# Altium schematic symbol library AltiumDesignerLibraries.SCHLIB: 396 symbols (part 3 of 3)
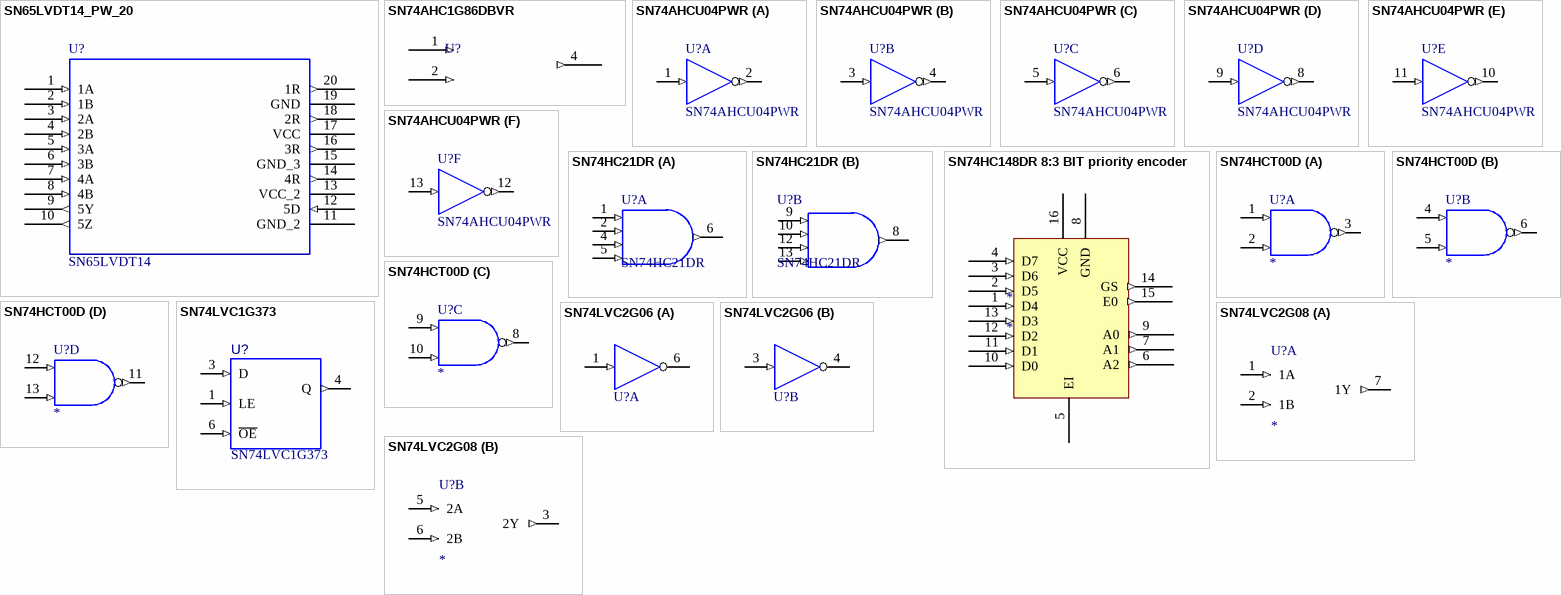
[diagram p19: symbols SN65LVDT14_PW_20 to SN74LVC2G08]

## SN74AHCU04PWR
designator U?
IC Hex inverter 14-TSSOP; Manufacturer: Texas Instruments
footprint TSSOP-14 (TSOP, 14-Leads, Body 5x4.4mm, Pitch 0.65mm, IPC Low Density)
pins on every part: 7 GND (power) hidden to AGND, 14 VDD (power) hidden to +5V
part A pins: 1 IN (in), 2 ~{OUT} (out)
part B pins: 3 IN (in), 4 ~{OUT} (out)
part C pins: 5 IN (in), 6 ~{OUT} (out)
part D pins: 8 ~{OUT} (out), 9 IN (in)
part E pins: 10 ~{OUT} (out), 11 IN (in)
part F pins: 12 ~{OUT} (out), 13 IN (in)

## SN74HC21DR
designator U?
SN74HC21DR DUAL 4IN POS-AND GATE 14-SOIC; Manufacturer: Texas Instruments
footprint SOIC-14
pins on every part: 7 GND (power) hidden, 14 VCC (power) hidden
part A pins: 1 A (in), 2 A (in), 4 A (in), 5 A (in), 6 A (out)
part B pins: 8 B (out), 9 B (in), 10 B (in), 11 NC hidden, 12 B (in), 13 B (in)

## SN74HC148DR 8:3 BIT priority encoder
designator *
SN74HC148DR 8:3 BIT priority encoder; Manufacturer: Texas Instruments
pins: 1 D4 (in), 2 D5 (in), 3 D6 (in), 4 D7 (in), 5 EI, 6 A2 (out), 7 A1 (out), 8 GND (power), 9 A0 (out), 10 D0 (in), 11 D1 (in), 12 D2 (in), 13 D3 (in), 14 GS (out), 15 E0 (out), 16 VCC (power)

## SN74HCT00D
designator U?
SN74HCT00D; Manufacturer: Texas Instruments
footprint SO-G14/G3.3
pins on every part: 7 GND (power) hidden, 14 VCC (power) hidden
part A pins: 1 A (in), 2 B (in), 3 Y (out)
part B pins: 4 A (in), 5 B (in), 6 Y (out)
part C pins: 8 Y (out), 9 A (in), 10 B (in)
part D pins: 11 Y (out), 12 A (in), 13 B (in)

## SN74LVC1G373
designator U?
Single D-Type Latch Tri-state output; Manufacturer: Texas Instruments
pins: 1 LE (in), 2 GND (io) hidden, 3 D (in), 4 Q (out), 5 VDD (power) hidden, 6 ~{OE} (in)

## SN74LVC2G06
designator U?, comment Inverter  (value not drawn)
Dual inverter buffer driver with open drain outputs; Manufacturer: Texas Instruments
footprint SO-G6/E5
part A pins: 1 A (in), 2 GND hidden to DGND, 5 Vcc hidden to +3.3V, 6 Y (oc)
part B pins: 3 A (in), 4 Y (oc)

## SN74LVC2G08
designator U?
Dual 2-input AND Gate; Manufacturer: Texas Instruments
part A pins: 1 1A (in), 2 1B (in), 4 GND (power) hidden, 7 1Y (out), 8 Vcc (power) hidden
part B pins: 3 2Y (out), 5 2A (in), 6 2B (in)

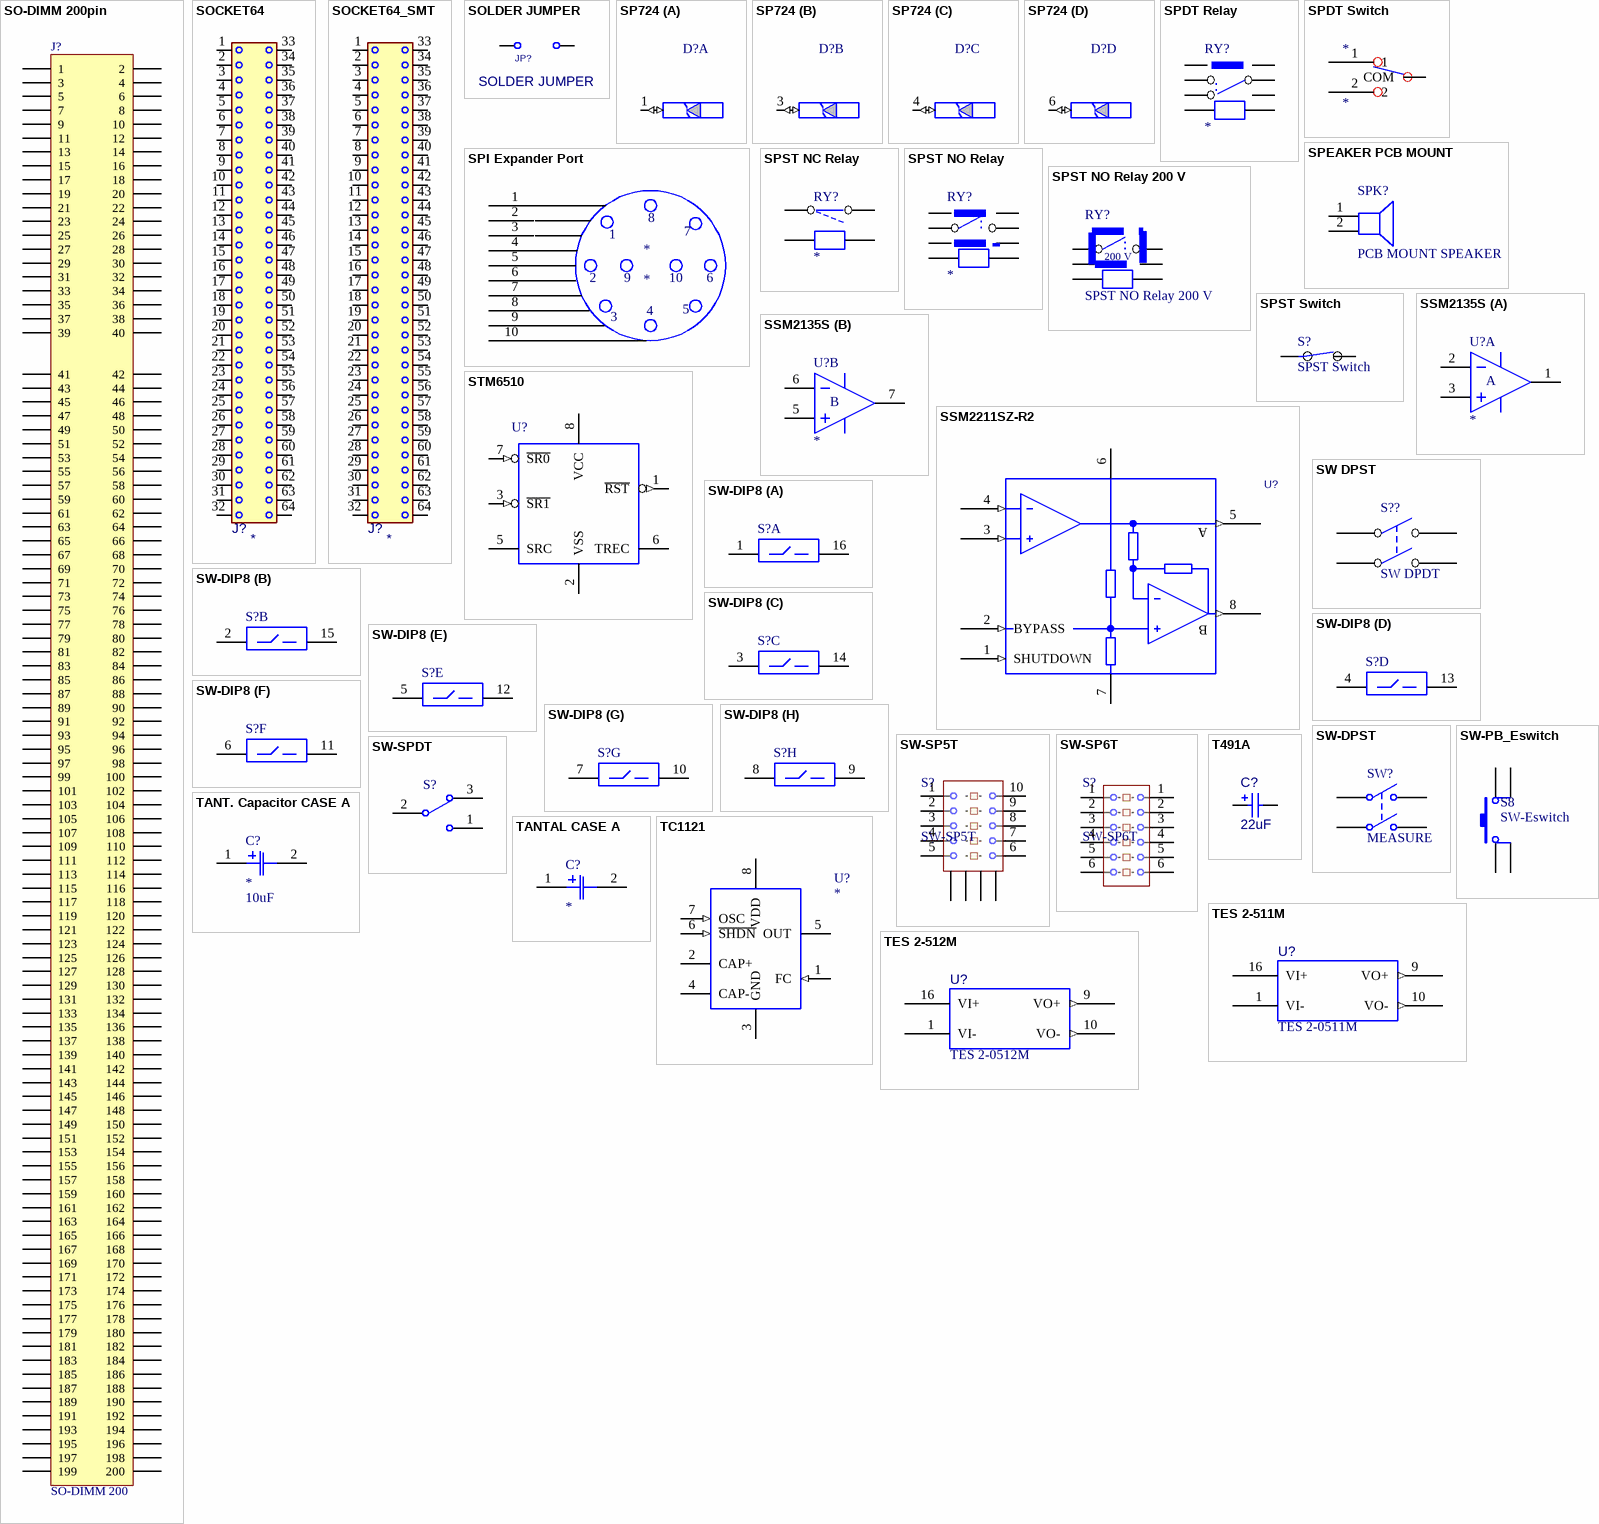
[diagram p14: symbols SO-DIMM 200pin to TES 2-512M]

## SO-DIMM 200pin
designator J?, comment SO-DIMM 200
SO-DIMM 200--Pin Tyco Electronics; Revision: 17-Jul-2002: Re-released for DXP Platform.; Manufacturer: Tyco
signal-integrity model Connector
footprint SO-DIMM (200 pin S0-DIMM)
pins: 1, 2, 3, 4, 5, 6, 7, 8, 9, 10, 11, 12, 13, 14, 15, 16, 17, 18, 19, 20, 21, 22, 23, 24, 25, 26, 27, 28, 29, 30, 31, 32, 33, 34, 35, 36, 37, 38, 39, 40, 41, 42, 43, 44, 45, 46, 47, 48, 49, 50, 51, 52, 53, 54, 55, 56, 57, 58, 59, 60, 61, 62, 63, 64, 65, 66, 67, 68, 69, 70, 71, 72, 73, 74, 75, 76, 77, 78, 79, 80, 81, 82, 83, 84, 85, 86, 87, 88, 89, 90, 91, 92, 93, 94, 95, 96, 97, 98, 99, 100, 101, 102, 103, 104, 105, 106, 107, 108, 109, 110, 111, 112, 113, 114, 115, 116, 117, 118, 119, 120, 121, 122, 123, 124, 125, 126, 127, 128, 129, 130, 131, 132, 133, 134, 135, 136, 137, 138, 139, 140, 141, 142, 143, 144, 145, 146, 147, 148, 149, 150, 151, 152, 153, 154, 155, 156, 157, 158, 159, 160, 161, 162, 163, 164, 165, 166, 167, 168, 169, 170, 171, 172, 173, 174, 175, 176, 177, 178, 179, 180, 181, 182, 183, 184, 185, 186, 187, 188, 189, 190, 191, 192, 193, 194, 195, 196, 197, 198, 199, 200

## SOCKET64
designator J?  (value not drawn)
DIN Socket, 64 Contacts, Dual Row, 3M 41612 Series 7164; Manufacturer: 3M; Value: *
footprint SOCKET64
pins: 1, 2, 3, 4, 5, 6, 7, 8, 9, 10, 11, 12, 13, 14, 15, 16, 17, 18, 19, 20, 21, 22, 23, 24, 25, 26, 27, 28, 29, 30, 31, 32, 33, 34, 35, 36, 37, 38, 39, 40, 41, 42, 43, 44, 45, 46, 47, 48, 49, 50, 51, 52, 53, 54, 55, 56, 57, 58, 59, 60, 61, 62, 63, 64

## SOCKET64_SMT
designator J?  (value not drawn)
DIN Socket, Surface Mount,  64 Contacts, Dual Row, Gull Wing; Manufacturer: SSW-132-22-F-D-VS; Value: *
footprint SSW Female Socket
pins: 1, 2, 3, 4, 5, 6, 7, 8, 9, 10, 11, 12, 13, 14, 15, 16, 17, 18, 19, 20, 21, 22, 23, 24, 25, 26, 27, 28, 29, 30, 31, 32, 33, 34, 35, 36, 37, 38, 39, 40, 41, 42, 43, 44, 45, 46, 47, 48, 49, 50, 51, 52, 53, 54, 55, 56, 57, 58, 59, 60, 61, 62, 63, 64

## SOLDER JUMPER
designator JP?
Value: SOBP; Description: Jumper
footprint SOLDER JUMPER
pins: 1, 2

## SP724
designator D?, comment SOT23-6  (value not drawn)
SCR Diode Array for ESD and Transient Overvoltage Protection; Manufacturer: Littlefuse
footprint SOT23-6
part A pins: 1 IN1 (io), 2 V- (power) hidden to GND "GND", 5 V+ (power) hidden to 3.3V "Vcc"
part B pins: 3 IN2 (io)
part C pins: 4 IN3 (io)
part D pins: 6 IN4 (io)

## SPDT Relay
designator RY?
Coto 9852-05-00 1 Form C
footprint SO-G8/X9.5 (SOIC 8 pin 0.5mm pitch extra wide body 12mm)
pins: 1 C1, 2 C2, 3 SHIELD (power), 4 SHIELD (power), 5 S1, 6 S2, 7 SHIELD (power), 8 SHIELD (power)

## SPDT Switch
designator *
General Purpose SPDT switch
pins: 0 COM, 1, 2

## SPEAKER PCB MOUNT
designator SPK?, comment PCB MOUNT SPEAKER
AST-1732MR-R Speaker 32ohm 200mW PCB mount thru hole; Revision: July-2002: Re-released for DXP Platform.
footprint AST-1732MR-R (SPEAKER pcb mount)
pins: 1, 2

## SPI Expander Port
designator *
10 position expander port
pins: 1, 2, 3, 4, 5, 6, 7, 8, 9, 10

## SPST NC Relay
designator RY?
General purpose NC relay
footprint 8000_Series_Relay
pins: 1 S2, 2 C2, 6 C1, 7 S1

## SPST NO Relay
designator RY?
Coto 9802-05-00
footprint SO-G8/X9.5
pins: 1 C1, 2 C2, 3 SHIELD (power), 4 SHIELD (power), 5 S1, 6 S2, 7 SHIELD (power), 8 SHIELD (power)

## SPST NO Relay 200 V
designator RY?
Relay Coto 9402-05-20
footprint Coto 9402
pins: 1 C1, 2 C2, 3 SHIELD (power), 4 SHIELD (power), 5 S1, 6 S2
text: 200 V

## SPST Switch
designator S?
General Purpose SPST switch
pins: 0 COM, 1

## SSM2135S
designator U?
Dual Audio Op-Amp
footprint SO-G8
part A pins: 1 OUT, 2 IN-, 3 IN+, 4 V- (power) hidden to V-, 8 V+ (power) hidden to V+
part B pins: 5 IN+, 6 IN-, 7 OUT
part A text: A
part B text: B

## SSM2211SZ-R2
designator U?, comment SSM2211  (value not drawn)
SSM221 Low Distortion 1.5W Audio PWR Amplifier
footprint SO-G8 (SOIC 8 pin 0.5mm pitch)
pins: 1 SHUTDOWN (in), 2 BYPASS (in), 3 IN+ (in), 4 IN- (in), 5 VOUTA (out), 6 V+ (power), 7 V- (power), 8 VOUTB (out)
text: A; B

## STM6510
designator U?  (value not drawn)
STM6510 Smart Reset; Manufacturer: ST Microelectronics
pins: 1 ~{RST} (out) "GND", 2 VSS (power) "GND", 3 ~{SR1} (in) "GND", 4 NC hidden "GND", 5 SRC "GND", 6 TREC "GND", 7 ~{SR0} (in) "GND", 8 VCC (power) "GND"

## SW DPST
designator S??, comment SW DPDT  (graphical)
General Purpose DPDT switch
pins: COMMON1, COMMON2, NO1, NO2

## SW-DIP8
designator S?  (value not drawn)
8 pos. Half-Pitch DIP switch 16-SOIC
simulation model dpsw8 (Spice Subcircuit)
footprint SO-16/7.8
part A pins: 1, 16
part B pins: 2, 15
part C pins: 3, 14
part D pins: 4, 13
part E pins: 5, 12
part F pins: 6, 11
part G pins: 7, 10
part H pins: 8, 9

## SW-DPST
designator SW?  value MEASURE  (hidden comment: SW-DPST)
Double-Pole, Single-Throw Switch; Revision: July-2002: Re-released for DXP Platform.
pins: 1 COMMON1, 2 NO1, 3 COMMON2, 4 NO2

## SW-PB_Eswitch
designator S8, comment SW-Eswitch
General Purpose PB Switch
footprint Eswitch
pins: 1, 2, 3, 4

## SW-SP5T
designator S?
SP6T Slide Switch
footprint SlideSW
pins: 1, 2, 3, 4, 5, 6, 7, 8, 9, 10, 11, 12, 13, 14

## SW-SP6T
designator S?
SP6T Slide Switch
footprint Mini-DipSW (Single surface mount dip switch)
pins: 1, 1, 2, 2, 3, 3, 4, 4, 5, 5, 6, 6

## SW-SPDT
designator S?
SPDT Subminiature Toggle Dip Switch SMT
footprint Mini-DipSW (Single surface mount dip switch)
pins: 1, 2, 3

## T491A
designator C?  value 22uF  (hidden comment: T491A)
Solid Tantalum Chip Capacitor, Standard T491 Series - Industrial Grade; Revision: 11-Dec-2002: PCB Footprint 'SO-C2/G.6' replaced
footprint A (Capacitor, SM Tantalum; Body 3.2 x 1.6 mm (LxW typ))
simulation model CAP (Capacitor)
signal-integrity model T491A
pins: 1, 2

## TANT. Capacitor CASE A
designator C?  value 10uF
TANT. Capacitor CASE A
footprint 3216 (A)
pins: 1 +, 2 -

## TANTAL CASE A
designator C?
TANTAL CASE A
footprint 3216 (A)
pins: 1 +, 2 -

## TC1121
designator U?
100mA Charge Pump Voltage Converter with Shutdown; Manufacturer: Microchip
footprint SO-G8
pins: 1 FC (in), 2 CAP+, 3 GND (power), 4 CAP-, 5 OUT (power), 6 ~{SHDN} (in), 7 OSC (in), 8 VDD (power)

## TES 2-511M
designator U?, comment TES 2-0511M
DC-DC conv. single output Iso 4kVAC 5V; Manufacturer: Traco
footprint TES2M
pins: 1 VI- (power), 7 NC hidden, 8 NC hidden, 9 VO+ (out), 10 VO- (out), 16 VI+ (power)

## TES 2-512M
designator U?, comment TES 2-0512M
DC-DC conv. single output Iso 4kVAC 5V to 12V; Manufacturer: Traco
footprint TES2M
pins: 1 VI- (power), 7 NC hidden, 8 NC hidden, 9 VO+ (out), 10 VO- (out), 16 VI+ (power)

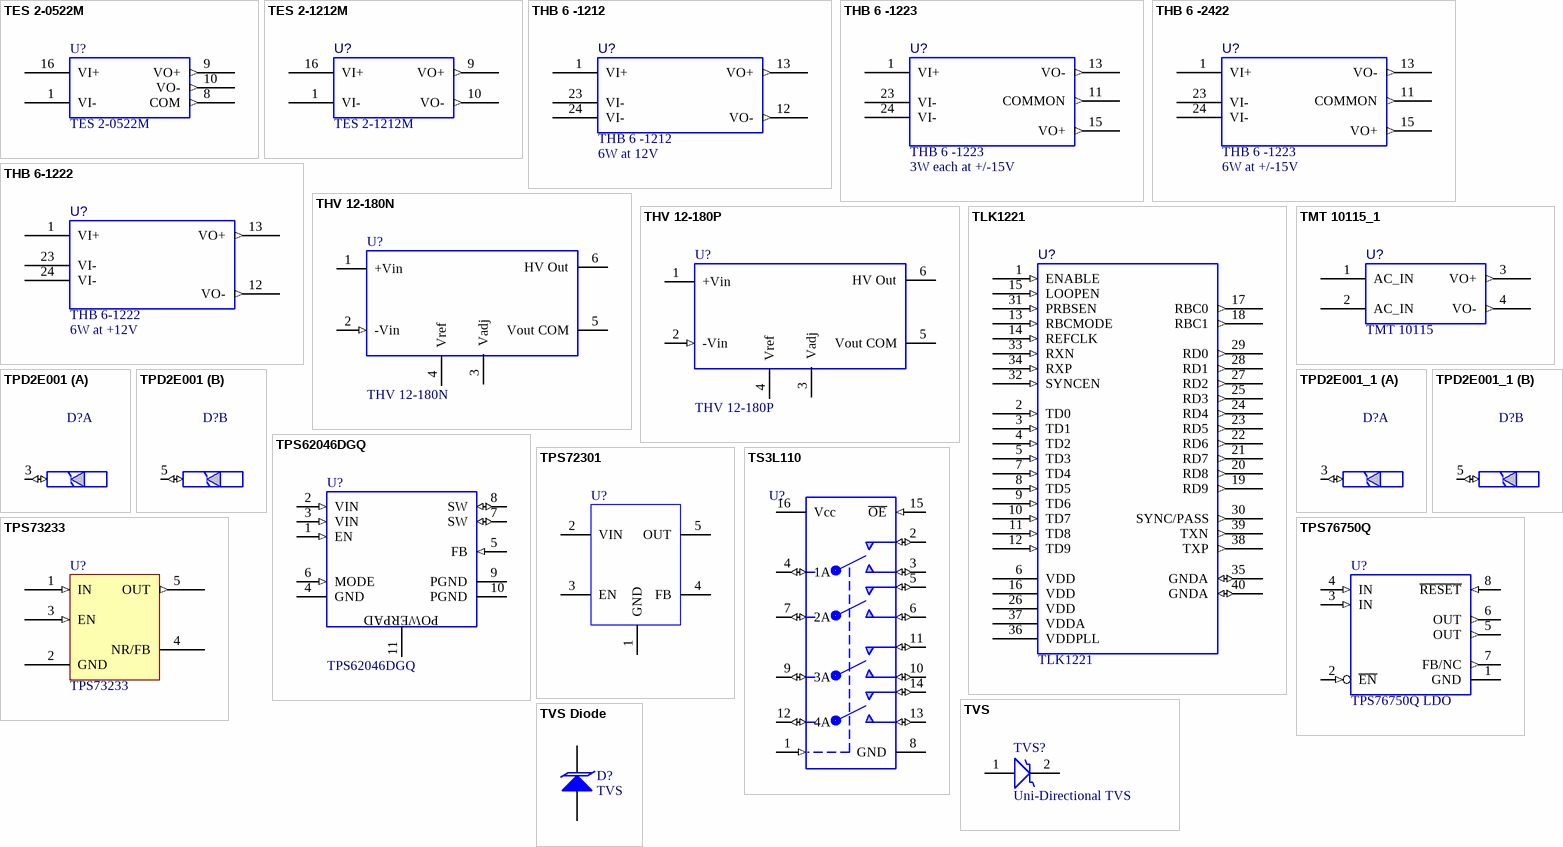
[diagram p15: symbols TES 2-0522M to TVS Diode]

## TES 2-0522M
designator U?
DC-DC conv. Isolated 4kVAC +/-12V; Manufacturer: Traco
footprint SIL-5(7)/A7.6
footprint TES2M
pins: 1 VI- (power), 7 NC hidden, 8 COM (out), 9 VO+ (out), 10 VO- (out), 16 VI+ (power)

## TES 2-1212M
designator U?
DC-DC conv. single output Iso 4kVAC 12V to 12V; Manufacturer: Traco; value: 2W @ 12V
footprint TES2M
pins: 1 VI- (power), 7 NC hidden, 8 NC hidden, 9 VO+ (out), 10 VO- (out), 16 VI+ (power)

## THB 6 -1212
designator U?  value 6W at 12V
DC-DC conv. single output Iso 4kVAC 12V to 12V; Manufacturer: Traco
footprint THB6 (THB 6 series DC-to-DC converter footprint)
pins: 1 VI+ (power), 7 NC hidden, 8 NC hidden, 11 NC (out) hidden, 12 VO- (out), 13 VO+ (out), 15 NC (out) hidden, 23 VI- (power), 24 VI- (power)

## THB 6 -1223
designator U?  value 3W each at +/-15V
DC-DC conv. dual output 12V to +/-15V; Manufacturer: Traco
footprint THB6 (THB 6 series DC-to-DC converter footprint)
pins: 1 VI+ (power), 11 COMMON (out), 12 NC hidden, 13 VO- (out), 15 VO+ (out), 23 VI- (power), 24 VI- (power)

## THB 6 -2422
designator U?, comment THB 6 -1223  value 6W at +/-15V
DC-DC conv. dual output Iso 4kVAC 19V to +/-15V; Manufacturer: Traco
footprint THB6 (THB 6 series DC-to-DC converter footprint)
pins: 1 VI+ (power), 11 COMMON (out), 12 NC hidden, 13 VO- (out), 15 VO+ (out), 23 VI- (power), 24 VI- (power)

## THB 6-1222
designator U?  value 6W at +12V
DC-DC conv. isolated 12V Out at 6W; Manufacturer: Traco
footprint THB6
pins: 1 VI+ (power), 12 NC hidden, 12 VO- (out), 13 VO+ (out), 23 VI- (power), 24 VI- (power)

## THV 12-180N
designator U?
-180V adjustable high voltage power supply; Manufacturer: Traco
pins: 1 +Vin (power), 2 -Vin (in), 3 Vadj (power), 4 Vref (power), 5 Vout COM (power), 6 HV Out (power)

## THV 12-180P
designator U?
+180V adjustable HV power supply; Manufacturer: Traco
pins: 1 +Vin (power), 2 -Vin (in), 3 Vadj (power), 4 Vref (power), 5 Vout COM (power), 6 HV Out (power)

## TLK1221
designator U?
TBI SERDES chip; Manufacturer: Texas Instruments
pins: 1 ENABLE (in), 2 TD0 (in), 3 TD1 (in), 4 TD2 (in), 5 TD3 (in), 6 VDD (power), 7 TD4 (in), 8 TD5 (in), 9 TD6 (in), 10 TD7 (in), 11 TD8 (in), 12 TD9 (in), 13 RBCMODE (in), 14 REFCLK (in), 15 LOOPEN (in), 16 VDD (power), 17 RBC0 (out), 18 RBC1 (out), 19 RD9 (out), 20 RD8 (out), 21 RD7 (out), 22 RD6 (out), 23 RD5 (out), 24 RD4 (out), 25 RD3 (out), 26 VDD (power), 27 RD2 (out), 28 RD1 (out), 29 RD0 (out), 30 SYNC/PASS (out), 31 PRBSEN (in), 32 SYNCEN (in), 33 RXN (in), 34 RXP (in), 35 GNDA (io), 36 VDDPLL (power), 37 VDDA (power), 38 TXP (out), 39 TXN (out), 40 GNDA (io)

## TMT 10115_1
designator U?, comment TMT 10115
AC/DC power module TMT series  10W; Manufacturer: Traco
pins: 1 AC_IN (power), 2 AC_IN (power), 3 VO+ (out), 4 VO- (out)

## TPD2E001
designator D?  (value not drawn)
TPD2E001 SCR Diode Array for ESD and Transient Overvoltage Protection; Manufacturer: Texas Instruments
footprint SOT23-5AN (SOT23, 5-Leads, Body 2.9x1.6mm, Pitch 0.95mm, Lead Span 2.8mm, IPC Medium Density)
part A pins: 1 VCC (power) hidden to 3.3V "Vcc", 3 IO1 (io), 4 GND (power) hidden to GND
part B pins: 2 NC hidden "GND", 5 IO2 (io)

## TPD2E001_1
designator D?, comment TPD2E001  (value not drawn)
TPD2E001 SCR Diode Array for ESD and Transient Overvoltage Protection
footprint SOT23-5AN (SOT23, 5-Leads, Body 2.9x1.6mm, Pitch 0.95mm, Lead Span 2.8mm, IPC Medium Density)
part A pins: 1 VCC (power) hidden to UNISO_3.3V "Vcc", 3 IO1 (io), 4 GND (power) hidden to CPM_GND
part B pins: 2 NC hidden "GND", 5 IO2 (io)

## TPS62046DGQ
designator U?
5V to 3.3V Step Down DC-DC converter 1.25MHz 1.2A; Manufacturer: Texas Instruments
footprint MSOP-10 Exposed Pad (MSOP-10 Exposed Pad must solder to ground)
pins: 1 EN (in), 2 VIN (in), 3 VIN (in), 4 GND (power), 5 FB (in), 6 MODE (in), 7 SW (io), 8 SW (io), 9 PGND (power), 10 PGND (power), 11 PGND (power)
text: POWERPAD

## TPS72301
designator U?
Low Noise Negative Votage Regulator; Manufacturer: Texas Instruments
footprint SO-G5/P.95
pins: 1 GND (power), 2 VIN (power), 3 EN, 4 FB, 5 OUT (power)

## TPS73233
designator U?
Cap-Free, NMOS, 250mA Low Dropout Regulator with Reverse Current Protection; Manufacturer: Texas Instruments
footprint SOT23-5AN (SOT23, 5-Leads, Body 2.9x1.6mm, Pitch 0.95mm, Lead Span 2.8mm, IPC Medium Density)
pins: 1 IN (in), 2 GND (power), 3 EN (in), 4 NR/FB, 5 OUT (out)

## TPS76750Q
designator U?, comment TPS76750Q LDO
TPS76750Q Pos. 5V LDO 1000mA; Manufacturer: Texas Instruments
footprint SO-G8 (SOIC 8 pin 0.5mm pitch)
pins: 1 GND, 2 ~{EN} (in), 3 IN (in), 4 IN (in), 5 OUT (out), 6 OUT (out), 7 FB/NC (out), 8 ~{RESET} (in)

## TS3L110
designator U?, comment Ethernet Multiplexer  (value not drawn)
TS3L110 IC FET MUX/DEMUX SGL 16TSSOP; Manufacturer: Texas Instruments
footprint TSSO5X6-G16
pins: 1 SEL (in), 2 1B1 (io), 3 1B2 (io), 4 1A (io), 5 2B1 (io), 6 2B2 (io), 7 2A (io), 8 GND (power), 9 3A (io), 10 3B2 (io), 11 3B1 (io), 12 4A (io), 13 4B2 (io), 14 4B1 (io), 15 ~{OE} (in), 16 Vcc (power)

## TVS
designator TVS?, comment Uni-Directional TVS
Transient Voltage Suppressor
footprint TVS0603
pins: 1 A, 2 K

## TVS Diode
designator D?, comment TVS
P6KE20A 600Watt Uniderectional TVS thru-hole; Revision: 17-Jul-2002: Re-released for DXP Platform.
footprint DO-15 (Diode footprint 250mil body)
pins: 1 K, 2 A

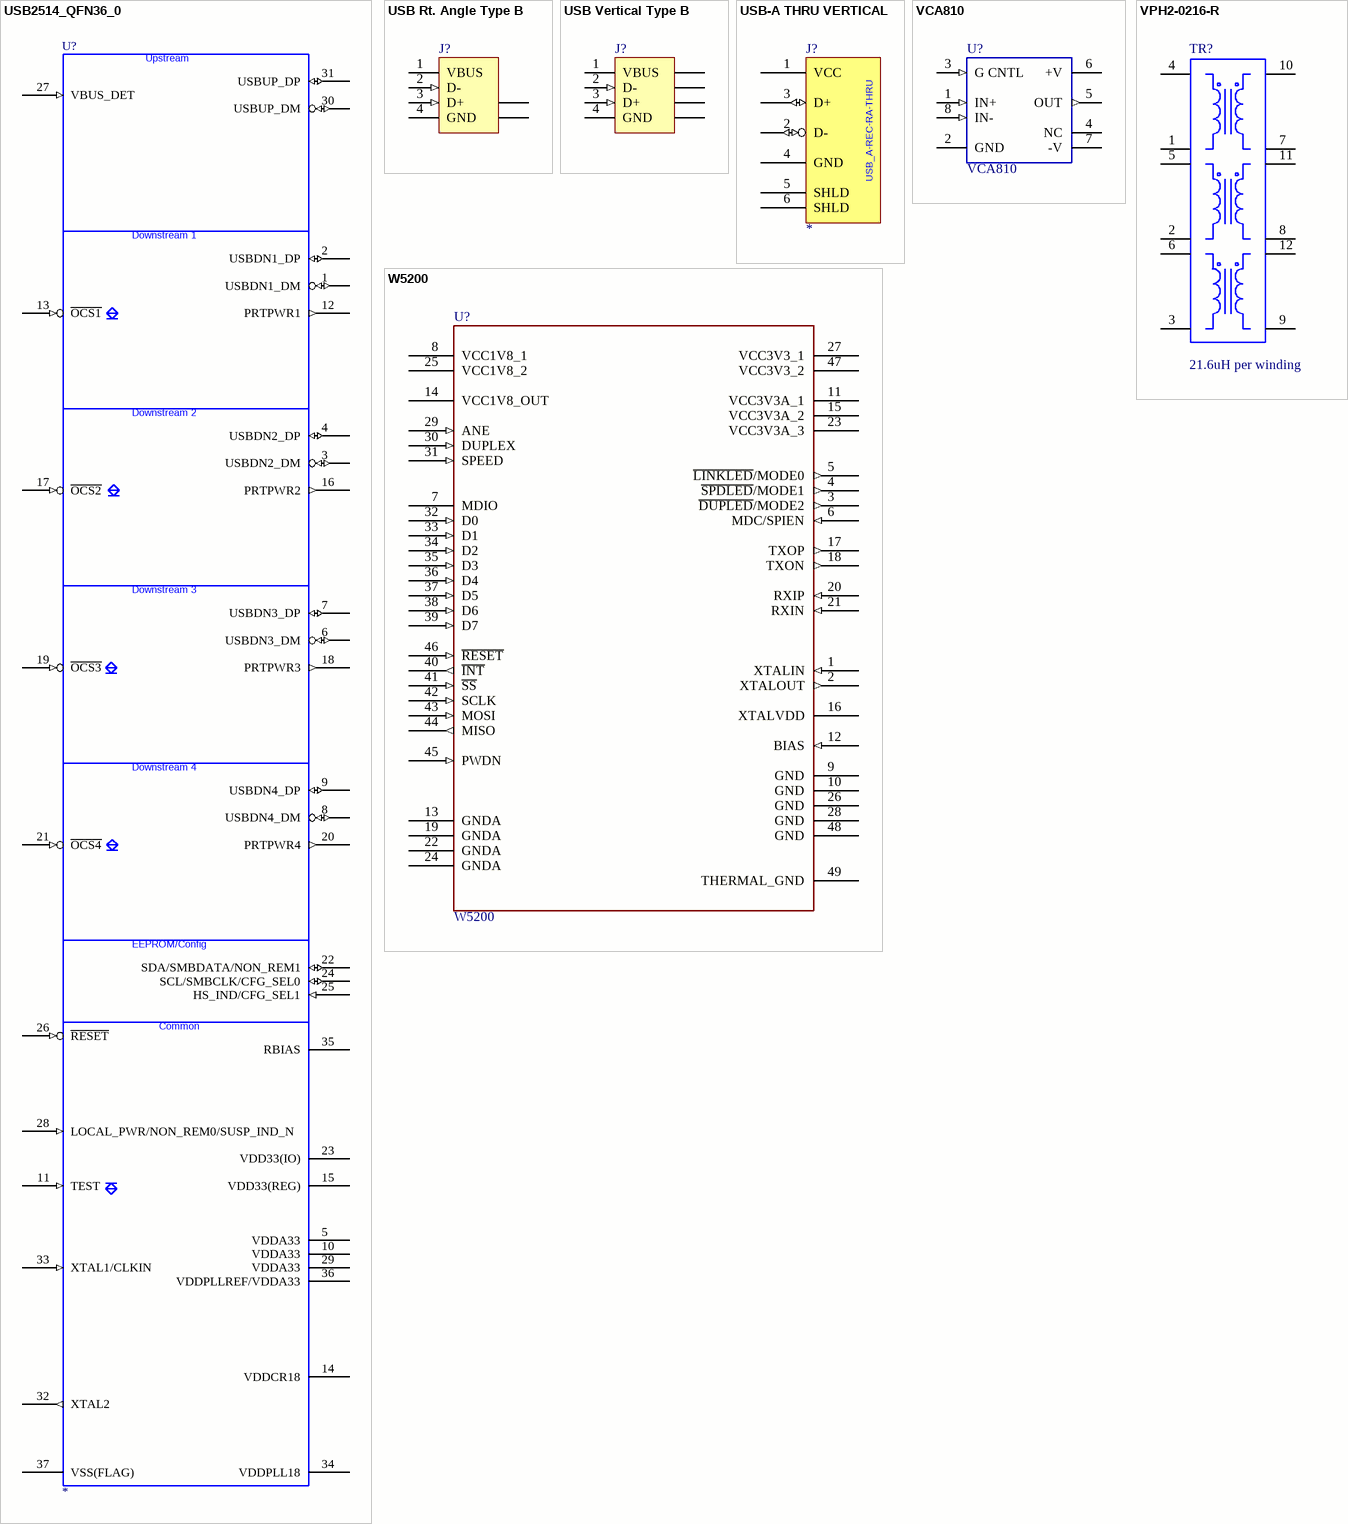
[diagram p16: symbols USB2514_QFN36_0 to W5200]

## USB2514_QFN36_0
designator U?
USB Hub chip 4-port; Manufacturer: Microchip
footprint QFN6X6-36
pins: 1 USBDN1_DM (io), 2 USBDN1_DP (io), 3 USBDN2_DM (io), 4 USBDN2_DP (io), 5 VDDA33 (power), 6 USBDN3_DM (io), 7 USBDN3_DP (io), 8 USBDN4_DM (io), 9 USBDN4_DP (io), 10 VDDA33 (power), 11 TEST (in), 12 PRTPWR1 (out), 13 ~{OCS1} (in), 14 VDDCR18 (power), 15 VDD33(REG) (power), 16 PRTPWR2 (out), 17 ~{OCS2} (in), 18 PRTPWR3 (out), 19 ~{OCS3} (in), 20 PRTPWR4 (out), 21 ~{OCS4} (in), 22 SDA/SMBDATA/NON_REM1 (io), 23 VDD33(IO) (power), 24 SCL/SMBCLK/CFG_SEL0 (io), 25 HS_IND/CFG_SEL1 (in), 26 ~{RESET} (in), 27 VBUS_DET (in), 28 LOCAL_PWR/NON_REM0/SUSP_IND_N (in), 29 VDDA33 (power), 30 USBUP_DM (io), 31 USBUP_DP (io), 32 XTAL2 (out), 33 XTAL1/CLKIN (in), 34 VDDPLL18 (power), 35 RBIAS, 36 VDDPLLREF/VDDA33 (power), 37 VSS(FLAG) (power)
text: Upstream; Downstream 1; Downstream 2; Downstream 3; Downstream 4; EEPROM/Config; Common

## USB Rt. Angle Type B
designator J?
USB 2.0, Right Angle, Thru-Hole, B Type, Receptacle, 4 Position, Black
footprint USB_TypeB_RT_Angle
signal-integrity model USB1.1
pins: 1 VBUS (power) "Power", 2 D- (in) "-DATA", 3 D+ (in) "+DATA", 4 GND (power) "Ground", 5 SHLD "Shield", 6 SHLD "Shield"

## USB Vertical Type B
designator J?
USB 2.0, Vertical, Thru-Hole, B Type, Receptacle, 8 Position,
footprint USB Type B vertical (USB Type B vertical thru hole)
signal-integrity model USB1.1
pins: 1 VBUS (power) "Power", 2 D- (in) "-DATA", 3 D+ (in) "+DATA", 4 GND (power) "Ground", 5 SHLD "Shield", 6 SHLD "Shield", 7 SHLD "Shield", 8 SHLD "Shield"

## USB-A THRU VERTICAL
designator J?
Vertical Type A usb conn
footprint USB-A Vertical
pins: 1 VCC, 2 D- (io), 3 D+ (io), 4 GND, 5 SHLD, 6 SHLD
text: USB_A-REC-RA-THRU

## VCA810
designator U?
Wideband Voltage Controlled Amplifier; Manufacturer: Texas Instruments
simulation model VCA610M (SUBCKT)
footprint SO-G8
pins: 1 IN+ (in), 2 GND (power), 3 G CNTL (in), 4 NC, 5 OUT (out), 6 +V (power), 7 -V (power), 8 IN- (in)

## VPH2-0216-R
designator TR?  value 21.6uH per winding
VERSA-PAC Transformer (pinouts for VP1,VP2); Manufacturer: Eaton Bussmann
footprint VP2 (VERSA-PAC VP2 or VPH2 footprint)
pins: 1 Pri-, 2 Pri-, 3 Pri-, 4 Pri+, 5 Pri+ (power), 6 Pri+ (power), 7 Sec-, 8 Sec-, 9 Sec-, 10 Sec+, 11 Sec+, 12 Sec+

## W5200
designator U?
iEthernet W5200; Manufacturer: WIZnet
footprint QFN50P700X700-48W6M (QFN, 48-Leads, Body 7x7mm, Pitch 0.5mm, IPC Low Density)
pins: 1 XTALIN (in), 2 XTALOUT (out), 3 ~{DUPLED}/MODE2 (out), 4 ~{SPDLED}/MODE1 (out), 5 ~{LINKLED}/MODE0 (out), 6 MDC/SPIEN (in), 7 MDIO, 8 VCC1V8_1 (power), 9 GND (power), 10 GND (power), 11 VCC3V3A_1 (power), 12 BIAS (in), 13 GNDA (power), 14 VCC1V8_OUT (power), 15 VCC3V3A_2 (power), 16 XTALVDD (power), 17 TXOP (out), 18 TXON (out), 19 GNDA (power), 20 RXIP (in), 21 RXIN (in), 22 GNDA (power), 23 VCC3V3A_3 (power), 24 GNDA (power), 25 VCC1V8_2 (power), 26 GND (power), 27 VCC3V3_1 (power), 28 GND (power), 29 ANE (in), 30 DUPLEX (in), 31 SPEED (in), 32 D0 (in), 33 D1 (in), 34 D2 (in), 35 D3 (in), 36 D4 (in), 37 D5 (in), 38 D6 (in), 39 D7 (in), 40 ~{INT} (out), 41 ~{SS} (in), 42 SCLK (in), 43 MOSI (in), 44 MISO (out), 45 PWDN (in), 46 ~{RESET} (in), 47 VCC3V3_2, 48 GND (power), 49 THERMAL_GND (power)

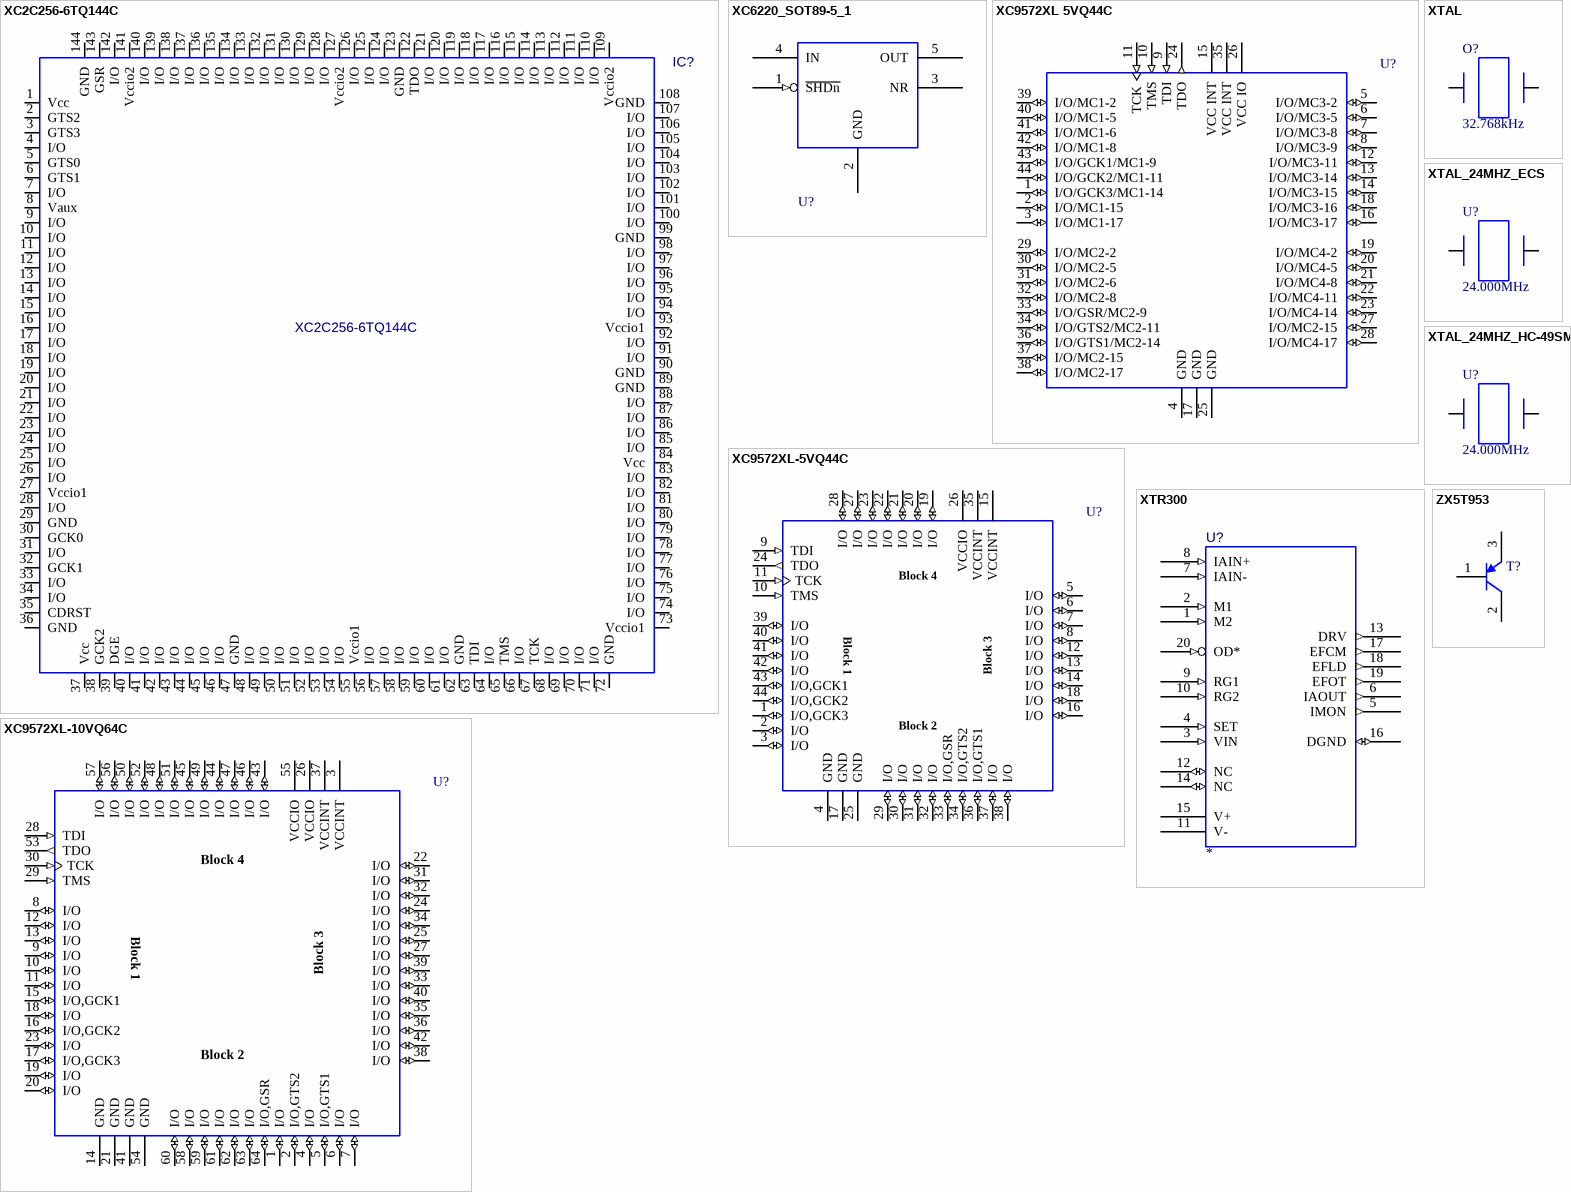
[diagram p17: symbols XC2C256-6TQ144C to ZX5T953]

## XC2C256-6TQ144C
designator IC?
CoolRunner2 CPLD; Manufacturer: Xilinx; Value: XC2C256-6TQ144C
footprint TQ144
pins: 1 Vcc (power), 2 GTS2 (io), 3 GTS3 (io), 4 I/O (io), 5 GTS0 (io), 6 GTS1 (io), 7 I/O (io), 8 Vaux (power), 9 I/O (io), 10 I/O (io), 11 I/O (io), 12 I/O (io), 13 I/O (io), 14 I/O (io), 15 I/O (io), 16 I/O (io), 17 I/O (io), 18 I/O (io), 19 I/O (io), 20 I/O (io), 21 I/O (io), 22 I/O (io), 23 I/O (io), 24 I/O (io), 25 I/O (io), 26 I/O (io), 27 Vccio1 (power), 28 I/O (io), 29 GND (power), 30 GCK0 (io), 31 I/O (io), 32 GCK1 (io), 33 I/O (io), 34 I/O (io), 35 CDRST (io), 36 GND (power), 37 Vcc (power), 38 GCK2 (io), 39 DGE (io), 40 I/O (io), 41 I/O (io), 42 I/O (io), 43 I/O (io), 44 I/O (io), 45 I/O (io), 46 I/O (io), 47 GND (power), 48 I/O (io), 49 I/O (io), 50 I/O (io), 51 I/O (io), 52 I/O (io), 53 I/O (io), 54 I/O (io), 55 Vccio1 (power), 56 I/O (io), 57 I/O (io), 58 I/O (io), 59 I/O (io), 60 I/O (io), 61 I/O (io), 62 GND (power), 63 TDI (io), 64 I/O (io), 65 TMS (io), 66 I/O (io), 67 TCK (io), 68 I/O (io), 69 I/O (io), 70 I/O (io), 71 I/O (io), 72 GND (power), 73 Vccio1 (power), 74 I/O (io), 75 I/O (io), 76 I/O (io), 77 I/O (io), 78 I/O (io), 79 I/O (io), 80 I/O (io), 81 I/O (io), 82 I/O (io), 83 I/O (io), 84 Vcc (power), 85 I/O (io), 86 I/O (io), 87 I/O (io), 88 I/O (io), 89 GND (power), 90 GND (power), 91 I/O (io), 92 I/O (io), 93 Vccio1 (power), 94 I/O (io), 95 I/O (io), 96 I/O (io), 97 I/O (io), 98 I/O (io), 99 GND (power), 100 I/O (io), 101 I/O (io), 102 I/O (io), 103 I/O (io), 104 I/O (io), 105 I/O (io), 106 I/O (io), 107 I/O (io), 108 GND (power), 109 Vccio2 (power), 110 I/O (io), 111 I/O (io), 112 I/O (io), 113 I/O (io), 114 I/O (io), 115 I/O (io), 116 I/O (io), 117 I/O (io), 118 I/O (io), 119 I/O (io), 120 I/O (io), 121 I/O (io), 122 TDO (io), 123 GND (power), 124 I/O (io), 125 I/O (io), 126 I/O (io), 127 Vccio2 (power), 128 I/O (io), 129 I/O (io), 130 I/O (io), 131 I/O (io), 132 I/O (io), 133 I/O (io), 134 I/O (io), 135 I/O (io), 136 I/O (io), 137 I/O (io), 138 I/O (io), 139 I/O (io), 140 I/O (io), 141 Vccio2 (power), 142 I/O (io), 143 GSR (io), 144 GND (power)

## XC6220_SOT89-5_1
designator U?, comment 3.3V Regulator  (value not drawn)
Regulator 3.3V @ 1A; Manufacturer: Xilinx
footprint SOT89-5
pins: 1 ~{SHDn} (in), 2 GND (power), 3 NR, 4 IN (power), 5 OUT (power)

## XC9572XL 5VQ44C
designator U?
XC9500 CPLD with 36 Macrocells, 44-Pin VQFP, Commercial Grade; Manufacturer: Xilinx; Revision: 17-Jul-2002: Re-released for DXP Platform.
footprint VQ44
3D model XC9572-VQ44 (PCB3D Model)
signal-integrity model XC9572_VQ44 (XC9500)
pins: 1 I/O/GCK3/MC1-14 (io), 2 I/O/MC1-15 (io), 3 I/O/MC1-17 (io), 4 GND (power), 5 I/O/MC3-2 (io), 6 I/O/MC3-5 (io), 7 I/O/MC3-8 (io), 8 I/O/MC3-9 (io), 9 TDI (in), 10 TMS (in), 11 TCK (in), 12 I/O/MC3-11 (io), 13 I/O/MC3-14 (io), 14 I/O/MC3-15 (io), 15 VCC INT (power), 16 I/O/MC3-17 (io), 17 GND (power), 18 I/O/MC3-16 (io), 19 I/O/MC4-2 (io), 20 I/O/MC4-5 (io), 21 I/O/MC4-8 (io), 22 I/O/MC4-11 (io), 23 I/O/MC4-14 (io), 24 TDO (out), 25 GND (power), 26 VCC IO (power), 27 I/O/MC2-15 (io), 28 I/O/MC4-17 (io), 29 I/O/MC2-2 (io), 30 I/O/MC2-5 (io), 31 I/O/MC2-6 (io), 32 I/O/MC2-8 (io), 33 I/O/GSR/MC2-9 (io), 34 I/O/GTS2/MC2-11 (io), 35 VCC INT (power), 36 I/O/GTS1/MC2-14 (io), 37 I/O/MC2-15 (io), 38 I/O/MC2-17 (io), 39 I/O/MC1-2 (io), 40 I/O/MC1-5 (io), 41 I/O/MC1-6 (io), 42 I/O/MC1-8 (io), 43 I/O/GCK1/MC1-9 (io), 44 I/O/GCK2/MC1-11 (io)

## XC9572XL-5VQ44C
designator U?
FastFLASH XC9572XL High Performance CPLD with 72 Macrocells, 44-Pin VQFP, Commercial Grade; Manufacturer: Xilinx
footprint VQ44 (44-Pin Very Thin Quad Flat Pack (VQ44))
3D model XC9572XL-VQ44 (44-Pin Very Thin Quad Flat Pack (VQ44))
signal-integrity model XC9572XL_VQ44 (XC9500XL)
pins: 1 I/O,GCK3 (io), 2 I/O (io), 3 I/O (io), 4 GND (power), 5 I/O (io), 6 I/O (io), 7 I/O (io), 8 I/O (io), 9 TDI (in), 10 TMS (in), 11 TCK (in), 12 I/O (io), 13 I/O (io), 14 I/O (io), 15 VCCINT (power), 16 I/O (io), 17 GND (power), 18 I/O (io), 19 I/O (io), 20 I/O (io), 21 I/O (io), 22 I/O (io), 23 I/O (io), 24 TDO (out), 25 GND (power), 26 VCCIO (power), 27 I/O (io), 28 I/O (io), 29 I/O (io), 30 I/O (io), 31 I/O (io), 32 I/O (io), 33 I/O,GSR (io), 34 I/O,GTS2 (io), 35 VCCINT (power), 36 I/O,GTS1 (io), 37 I/O (io), 38 I/O (io), 39 I/O (io), 40 I/O (io), 41 I/O (io), 42 I/O (io), 43 I/O,GCK1 (io), 44 I/O,GCK2 (io)
text: Block 4; Block 1; Block 3; Block 2

## XC9572XL-10VQ64C
designator U?
FastFLASH XC9572XL High Performance CPLD with 72 Macrocells, 64-Pin VQFP, Commercial Grade; Manufacturer: Xilinx
footprint VQ64 (64-Pin Very Thin Quad Flat Pack (VQ64))
3D model XC9572XL-VQ64 (64-Pin Very Thin Quad Flat Pack (VQ64))
signal-integrity model XC9572XL_VQ64 (XC9500XL)
pins: 1 I/O (io), 2 I/O,GTS2 (io), 3 VCCINT (power), 4 I/O (io), 5 I/O,GTS1 (io), 6 I/O (io), 7 I/O (io), 8 I/O (io), 9 I/O (io), 10 I/O (io), 11 I/O (io), 12 I/O (io), 13 I/O (io), 14 GND (power), 15 I/O,GCK1 (io), 16 I/O,GCK2 (io), 17 I/O,GCK3 (io), 18 I/O (io), 19 I/O (io), 20 I/O (io), 21 GND (power), 22 I/O (io), 23 I/O (io), 24 I/O (io), 25 I/O (io), 26 VCCIO (power), 27 I/O (io), 28 TDI (in), 29 TMS (in), 30 TCK (in), 31 I/O (io), 32 I/O (io), 33 I/O (io), 34 I/O (io), 35 I/O (io), 36 I/O (io), 37 VCCINT (power), 38 I/O (io), 39 I/O (io), 40 I/O (io), 41 GND (power), 42 I/O (io), 43 I/O (io), 44 I/O (io), 45 I/O (io), 46 I/O (io), 47 I/O (io), 48 I/O (io), 49 I/O (io), 50 I/O (io), 51 I/O (io), 52 I/O (io), 53 TDO (out), 54 GND (power), 55 VCCIO (power), 56 I/O (io), 57 I/O (io), 58 I/O (io), 59 I/O (io), 60 I/O (io), 61 I/O (io), 62 I/O (io), 63 I/O (io), 64 I/O,GSR (io)
text: Block 4; Block 1; Block 3; Block 2

## XTAL
designator O?, comment 32.768kHz
FC-255 32.7680K-A3  crystal 20ppm
footprint FC-255 (FC-255 crystal footprint)
pins: 1 X1, 2 X2

## XTAL_24MHZ_ECS
designator U?, comment 24.000MHz
Crystal, 24.000MHz, 50ppm, 18pF, HC-49SMT
footprint RXD5ASM
pins: 1 X1, 2 X2

## XTAL_24MHZ_HC-49SMT
designator U?, comment 24.000MHz
Crystal, 24.000MHz, 50ppm, 18pF, HC-49SMT
footprint HC-49 (5.5mm X 1.5mm crystal footprint)
pins: 1 X1, 2 X2

## XTR300
designator U?
Analog Current/Voltage Output Driver; Manufacturer: Texas Instruments
footprint QFN/N20 (QFN 20 pin)
pins: 1 M2 (in), 2 M1 (in), 3 VIN (in), 4 SET (in), 5 IMON (out), 6 IAOUT (out), 7 IAIN- (in), 8 IAIN+ (in), 9 RG1 (in), 10 RG2 (in), 11 V- (power), 12 NC (io), 13 DRV (out), 14 NC (io), 15 V+ (power), 16 DGND (io), 17 EFCM (out), 18 EFLD (out), 19 EFOT (out), 20 OD* (in)

## ZX5T953
designator T?  (value not drawn)
PNP Bipolar Transistor; Manufacturer: Diodes Inc; Revision: July-2002: Re-released for DXP Platform.
footprint SOT89
simulation model PNP
signal-integrity model PNP
pins: 1 B, 2 C, 3 E